# Altium schematic symbol library KW3-281.SchLib: 2 symbols
Pins are listed as number, name and electrical type; pins without a type are passive.

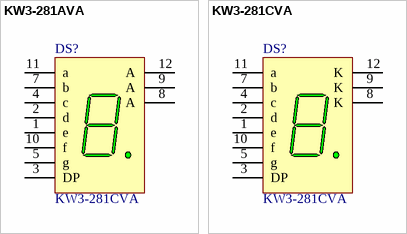
[diagram p0: symbols KW3-281AVA to KW3-281CVA]

## KW3-281AVA
designator DS?  value KW3-281CVA
Triple Digit 7-segment LED Display; ComponentLink1Description: Manufacturer Link; ComponentLink1URL: http://www.agilent.com/
footprint LEDDIP-12/7.62 (LED, 7-Segment Display, 7.62 mm, RHD; 10 Leads; Row Space 5.08 mm; Pitch 2.54 mm)
pins: 1 e "Anode", 2 d "Anode", 3 DP "Anode", 4 c "Anode", 5 g "Anode", 7 b "Anode", 8 A "Cathode", 9 A "Cathode", 10 f "Anode", 11 a "Anode", 12 A "Cathode"

## KW3-281CVA
designator DS?  value KW3-281CVA
Triple Digit 7-segment LED Display; ComponentLink1Description: Manufacturer Link; ComponentLink1URL: http://www.agilent.com/
footprint LEDDIP-12/7.62 (LED, 7-Segment Display, 7.62 mm, RHD; 10 Leads; Row Space 5.08 mm; Pitch 2.54 mm)
pins: 1 e "Anode", 2 d "Anode", 3 DP "Anode", 4 c "Anode", 5 g "Anode", 7 b "Anode", 8 K "Cathode", 9 K "Cathode", 10 f "Anode", 11 a "Anode", 12 K "Cathode"